# Altium footprint library inductor.PcbLib: 7 footprints
Each footprint in its own frame and in the unit in brackets; x right, y up, seen from the top. Pads: shape width x height; smd on the part's side, far side on the other; paste and mask are expansions set on the pad; w line width, h text height; cw(c..) or ccw(c..) is an arc to the next point about the centre after c.
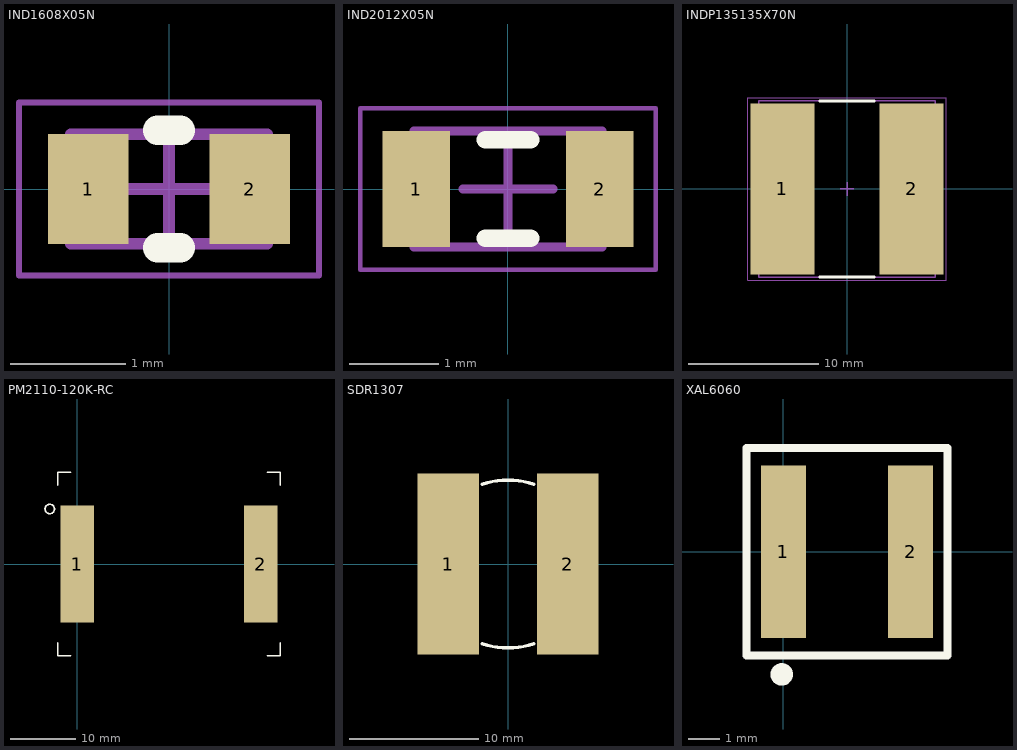
[diagram p0: the footprints below, top view; thin cyan lines are the x and y axes]

## IND1608X05N [mm] "Chip Inductor 2-Leads, Body 1.60x0.75mm, IPC Medium Density"
height 0.45
pads (2):
  rect 0.7x0.95 smd: 1(-0.7,0) 2(0.7,0)
Top Overlay:
  lines w0.254: -0.1,-0.508 0.1,-0.508 ; -0.1,0.508 0.1,0.508
Mechanical 13:
  lines w0.1: -0.85,-0.475 -0.85,0.475 0.85,0.475 0.85,-0.475 -0.85,-0.475
Mechanical 15:
  lines w0.05: -1.3,-0.75 -1.3,0.75 1.3,0.75 1.3,-0.75 -1.3,-0.75
  lines w0.1: -0.475,0 0.475,0 ; 0,-0.475 0,0.475
3D body "RESC1608X05N.step": height 0.45, standoff 0, extent -0.85,-0.475 0.85,0.475

## IND2012X05N [mm] "Chip Inductor, 2-Leads, Body 2.00x1.20mm, IPC Medium Density"
height 0.5
pads (2):
  rect 0.75x1.3 smd: 1(-1.025,0) 2(1.025,0)
Top Overlay:
  lines w0.2: -0.25,-0.55 0.25,-0.55 ; -0.25,0.55 0.25,0.55
Mechanical 13:
  lines w0.1: -1.05,-0.65 1.05,-0.65 1.05,0.65 -1.05,0.65 -1.05,-0.65
Mechanical 15:
  lines w0.05: -1.65,-0.9 1.65,-0.9 1.65,0.9 -1.65,0.9 -1.65,-0.9
  lines w0.1: -0.5,0 0.5,0 ; 0,-0.5 0,0.5
3D body "RESC2012X05N.step": height 0.5, standoff 0, extent -1.05,-0.65 1.05,0.65

## INDP135135X70N [mm] "Precision Wire Wound Inductor, 2-Leads, Body 13.50x13.50mm, IPC Medium Density"
height 7
pads (2):
  rect 4.9x13.1 smd: 1(-4.95,0) 2(4.95,0)
Top Overlay:
  lines w0.2: -2.1,-6.75 2.1,-6.75 ; -2.1,6.75 2.1,6.75
Mechanical 13:
  lines w0.1: -6.75,-6.75 -6.75,6.75 6.75,6.75 6.75,-6.75 -6.75,-6.75
Mechanical 15:
  lines w0.05: -7.625,-7 -7.625,7 7.625,7 7.625,-7 -7.625,-7
  lines w0.1: -0.5,0 0.5,0 ; 0,-0.5 0,0.5
3D body "INDP135135X70N.step": height 7.1, standoff 0, extent -6.85,-6.75 6.85,6.75

## PCBComponent_1 [mm]

## PM2110-120K-RC [mm]
pads (2):
  rect 5.1x17.8 smd: 1(0,0) 2(28,0)
Top Overlay:
  circle w0.254: c-4.2,8.4 r0.721
  lines w0.254: -3,-12 -3,-14 -1,-14 ; -3,12 -3,14 -1,14 ; 29,-14 31,-14 31,-12 ; 29,14 31,14 31,12
3D body "IND_PM2110.step": height 16.05, standoff 0, extent -1.804,-12.827 29.794,12.573

## SDR1307 [mm]
height 5.96
pads (2):
  rect 4.75x14 smd: 1(-4.625,0) 2(4.625,0)
Top Overlay:
  lines w0.254: -1.996,-6.186 ccw(c0,0) 1.996,-6.186 ; -1.996,6.186 cw(c0,0) 1.996,6.186
3D body "SDR1307-1.stp": height 7, standoff 0, extent -6.5,-6.5 6.5,6.5

## XAL6060 [mm] "inductor CoilCraft"
height 6.1
pads (2):
  rect 1.43x5.5 smd: 1(0,0) 2(4.04,0)
Top Overlay:
  circle w0.354: c-0.055,-3.9 r0.18
  lines w0.254: -1.18,-3.3 5.22,-3.3 5.22,3.3 -1.18,3.3 -1.18,-3.3
3D body "Coilcraft-XAL6060.step": height 6, standoff -0.1, extent -1.26,-3.405 5.3,3.355